# EAGLE library part POT-DUAL-PTV112 (library CMU-ArtFab)
Bourns 11mm dual potentiometer
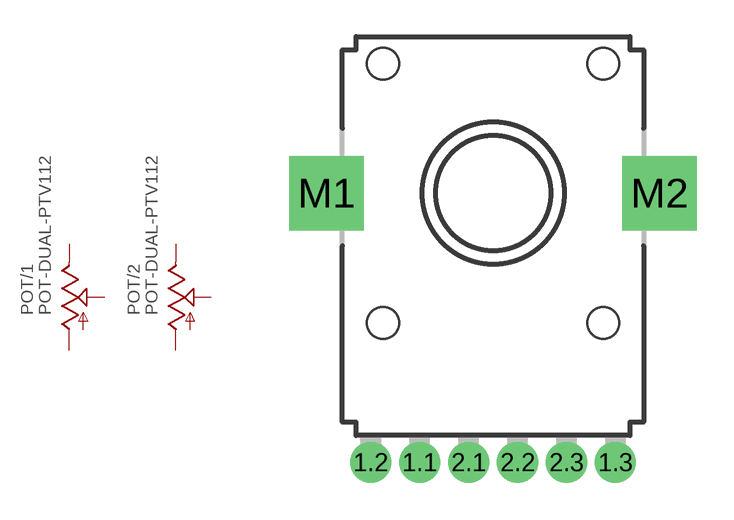
[diagram p33: symbol with the pads of PTV112; footprint PTV112]

Designator prefix POT; gates /1=POT-1 /2=POT-1

## POT-DUAL-PTV112-4420 (AVAILABILITY: Unavailable; DESCRIPTION: Alt# Tce-10111410; MF: STMicroelectronics; MP: PTV112; PACKAGE: None; PRICE: None)  [PTV112]
1.1  /1:A  pas
1.2  /1:S  pas
1.3  /1:E  pas
2.1  /2:A  pas
2.2  /2:S  pas
2.3  /2:E  pas

## Footprint PTV112 (pad centres in mm)
drill 1.1 pad 1.676: 1.1 -3,-11; 1.2 -5,-11; 1.3 5,-11; 2.1 -1,-11; 2.2 1,-11; 2.3 3,-11
drill 2.032 pad 2.8 square: M1 -6.8,0; M2 6.8,0